# Altium footprint library ДИОДЫ.PcbLib: 8 footprints
Each footprint in its own frame and in the unit in brackets; x right, y up, seen from the top. Pads: shape width x height; smd on the part's side, far side on the other; paste and mask are expansions set on the pad; w line width, h text height; cw(c..) or ccw(c..) is an arc to the next point about the centre after c.
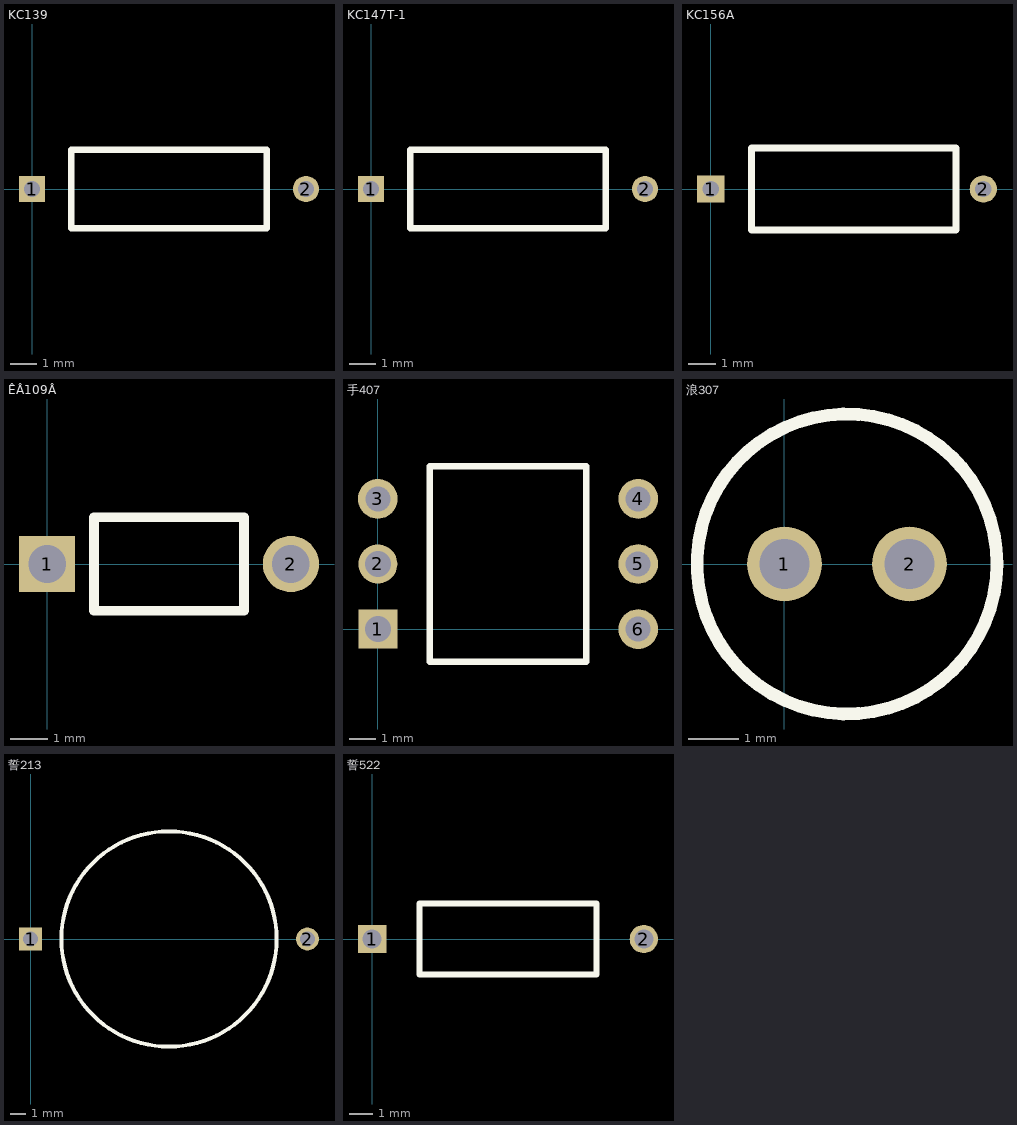
[diagram p0: the footprints below, top view; thin cyan lines are the x and y axes]

## KC139 [mm]
pads (2):
  rect 1x1 hole 0.6: 1(0,0)
  round 1 hole 0.6: 2(10.5,0)
Top Overlay:
  lines w0.254: 1.5,-1.5 9,-1.5 9,1.5 1.5,1.5 1.5,-1.5

## KC147T-1 [mm]
pads (2):
  rect 1x1 hole 0.6: 1(0,0)
  round 1 hole 0.6: 2(10.5,0)
Top Overlay:
  lines w0.254: 1.5,-1.5 9,-1.5 9,1.5 1.5,1.5 1.5,-1.5

## KC156A [mm]
pads (2):
  rect 1x1 hole 0.6: 1(0,0)
  round 1 hole 0.6: 2(10,0)
Top Overlay:
  lines w0.254: 1.5,-1.5 9,-1.5 9,1.5 1.5,1.5 1.5,-1.5

## ÊÂ109Â [mm]
pads (2):
  rect 1.5x1.5 hole 1: 1(0,0)
  round 1.5 hole 1: 2(6.5,0)
Top Overlay:
  lines w0.254: 1.25,-1.25 5.25,-1.25 5.25,1.25 1.25,1.25 1.25,-1.25

## 手407 [mm]
pads (6):
  rect 1.5x1.5 hole 1: 1(0,0)
  round 1.5 hole 1: 2(0,2.5)
  round 1.524 hole 0.965: 3(0,5) 4(10,5) 5(10,2.5) 6(10,0)
Top Overlay:
  lines w0.254: 2,-1.25 8,-1.25 8,6.25 2,6.25 2,-1.25

## 浪307 [mm]
pads (2):
  round 1.5 hole 1: 1(0,0) 2(2.5,0)
Top Overlay:
  circle w0.254: c1.25,0 r3

## 誓213 [mm]
pads (2):
  rect 1.5x1.5 hole 1: 1(0,0)
  round 1.5 hole 1: 2(18,0)
Top Overlay:
  circle w0.254: c9,0 r7

## 誓522 [mm]
pads (2):
  rect 1.2x1.2 hole 0.8: 1(0,0)
  round 1.2 hole 0.8: 2(11.5,0)
Top Overlay:
  lines w0.254: 2,-1.5 9.5,-1.5 9.5,1.5 2,1.5 2,-1.5